# Altium schematic symbol library HDR_8POS.SchLib: 1 symbol
Pins are listed as number, name and electrical type; pins without a type are passive.

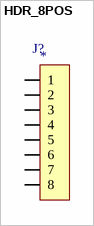
[diagram p0: symbol HDR_8POS]

## HDR_8POS
designator J?
Manufacturer Part Number: *
pins: 1, 2, 3, 4, 5, 6, 7, 8